# EAGLE library part DIL16 (library ic-package-16socketSMD)
Dual In Line / Socket SMD Version for Fingerboard PCB
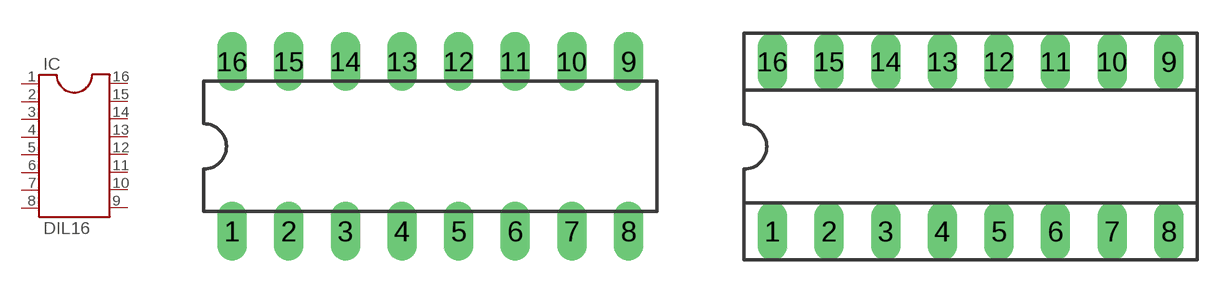
[diagram p8: symbol with the pads of DIL16; footprints DIL16, SOCKET-16]

Designator prefix IC

## DIL16  [DIL16]
1  1  pas
2  2  pas
3  3  pas
4  4  pas
5  5  pas
6  6  pas
7  7  pas
8  8  pas
9  9  pas
10  10  pas
11  11  pas
12  12  pas
13  13  pas
14  14  pas
15  15  pas
16  16  pas

## DIL16S  [SOCKET-16]
Pads as for DIL16

## DIL16SMD  [SOCKET-16SMD]
Pads as for DIL16

## Footprint DIL16 (pad centres in mm)
Dual In Line Package
drill 0.813 long: 1 -8.89,-3.81; 2 -6.35,-3.81; 3 -3.81,-3.81; 4 -1.27,-3.81; 5 1.27,-3.81; 6 3.81,-3.81; 7 6.35,-3.81; 8 8.89,-3.81; 9 8.89,3.81; 10 6.35,3.81; 11 3.81,3.81; 12 1.27,3.81; 13 -1.27,3.81; 14 -3.81,3.81; 15 -6.35,3.81; 16 -8.89,3.81

## Footprint SOCKET-16 (pad centres in mm)
Dual In Line Socket
drill 0.813 long: 1 -8.89,-3.81; 2 -6.35,-3.81; 3 -3.81,-3.81; 4 -1.27,-3.81; 5 1.27,-3.81; 6 3.81,-3.81; 7 6.35,-3.81; 8 8.89,-3.81; 9 8.89,3.81; 10 6.35,3.81; 11 3.81,3.81; 12 1.27,3.81; 13 -1.27,3.81; 14 -3.81,3.81; 15 -6.35,3.81; 16 -8.89,3.81

## Footprint SOCKET-16SMD (pad centres in mm)
Dual In Line Socket
smd 1.27 x 3.175: 1 -8.89,-4.128; 2 -6.35,-4.128; 3 -3.81,-4.128; 4 -1.27,-4.128; 5 1.27,-4.128; 6 3.81,-4.128; 7 6.35,-4.128; 8 8.89,-4.128; 9 8.89,4.128; 10 6.35,4.128; 11 3.81,4.128; 12 1.27,4.128; 13 -1.27,4.128; 14 -3.81,4.128; 15 -6.35,4.128; 16 -8.89,4.128